# Altium schematic symbol library RE_KELVIN.SchLib: 1 symbol
Pins are listed as number, name and electrical type; pins without a type are passive.

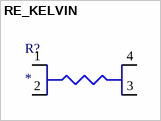
[diagram p0: symbol RE_KELVIN]

## RE_KELVIN
designator R?
pins: 1, 2, 3, 4